# EAGLE library part QORVO-RF_SWITCH-QPC7512 (library Module_ICs)
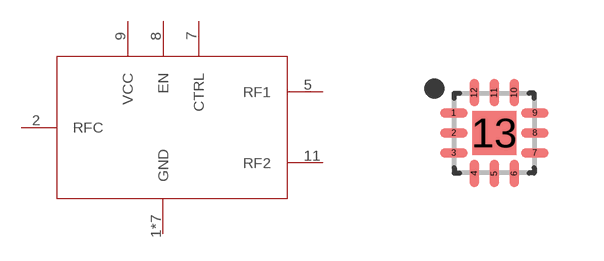
[diagram p72: symbol with the pads of QORVO-RF_SWITCH-QPC7512; footprint QORVO-RF_SWITCH-QPC7512]

Designator prefix U

## QORVO-RF_SWITCH-QPC7512  [QORVO-RF_SWITCH-QPC7512]
1  GND
2  RFC
3  GND
4  GND
5  RF1
6  GND
7  CTRL
8  EN
9  VCC
10  GND
11  RF2
12  GND
13  GND

## Footprint QORVO-RF_SWITCH-QPC7512 (pad centres in mm)
12-QFN, 0.50 mm pitch, 2.00 X 2.00 X 0.55 mm body, 1.10 X 1.10 mm thermal pad 12-pin QFN package with 0.50 mm pitch with body size 2.00 X 2.00 X 0.55 mm and thermal pad size 1.10 X 1.10 mm
smd 0.687 x 0.232: 1 -1.012,0.5; 2 -1.012,0; 3 -1.012,-0.5; 7 1.012,-0.5; 8 1.012,0; 9 1.012,0.5
smd 0.232 x 0.687: 4 -0.5,-1.012; 5 0,-1.012; 6 0.5,-1.012; 10 0.5,1.012; 11 0,1.012; 12 -0.5,1.012
smd 1.1 x 1.1: 13 0,0